# EAGLE library part MAX303CPE (library Oles komponentbibliotek)
Dual high-speed analog switches The single-pole double-throw (SPDT) MAX303 has two normally open (NO) and two normally closed (NC) poles. The switches operate with a single positive supply (+10V to +30V) or with split supplies (±4.5V to ±20V) while retaining CMOS-logic input compatibility and fast switching.
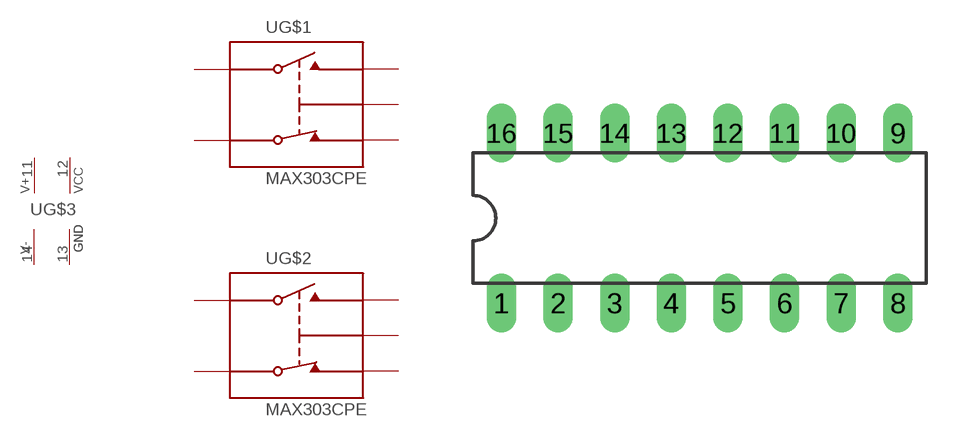
[diagram p2: symbol with the pads of DIL16; footprint DIL16]

Designator prefix -; gates G$1=MAX303 G$2=MAX303 G$3=PWRN+A

## MAX303CPE  [DIL16]
1  G$1:P$1
3  G$1:P$4
4  G$1:P$6
5  G$2:P$6
6  G$2:P$4
8  G$2:P$1
9  G$2:P$2
10  G$2:P$3  in
11  G$3:V+  pwr
12  G$3:VCC  pwr
13  G$3:GND  pwr
14  G$3:V-  pwr
15  G$1:P$3  in
16  G$1:P$2

## Footprint DIL16 (pad centres in mm)
Dual In Line Package
drill 0.813 long: 1 -8.89,-3.81; 2 -6.35,-3.81; 3 -3.81,-3.81; 4 -1.27,-3.81; 5 1.27,-3.81; 6 3.81,-3.81; 7 6.35,-3.81; 8 8.89,-3.81; 9 8.89,3.81; 10 6.35,3.81; 11 3.81,3.81; 12 1.27,3.81; 13 -1.27,3.81; 14 -3.81,3.81; 15 -6.35,3.81; 16 -8.89,3.81